# EAGLE library part IC_UC_ATMEGA32U4 (library dp_devices)
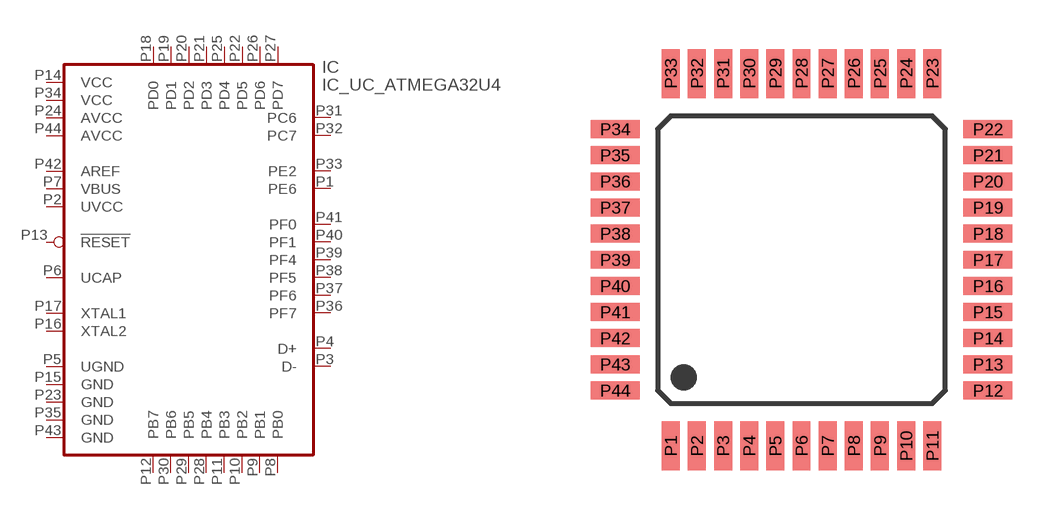
[diagram p96: symbol with the pads of TQFP-44; footprint TQFP-44]

Designator prefix IC

## IC_UC_ATMEGA32U4-TQFP44  [TQFP-44]
P1  PE6
P2  UVCC  pwr
P3  D-
P4  D+
P5  UGND  pwr
P6  UCAP  pwr
P7  VBUS  pwr
P8  PB0
P9  PB1
P10  PB2
P11  PB3
P12  PB7
P13  !RESET  in
P14  VCC  pwr
P15  GND  pwr
P16  XTAL2
P17  XTAL1
P18  PD0
P19  PD1
P20  PD2
P21  PD3
P22  PD5
P23  GND  pwr
P24  AVCC  pwr
P25  PD4
P26  PD6
P27  PD7
P28  PB4
P29  PB5
P30  PB6
P31  PC6
P32  PC7
P33  PE2
P34  VCC  pwr
P35  GND  pwr
P36  PF7
P37  PF6
P38  PF5
P39  PF4
P40  PF1
P41  PF0
P42  AREF  pwr
P43  GND  pwr
P44  AVCC  pwr

## Footprint TQFP-44 (pad centres in mm)
smd 0.55 x 1.5: P1 -4,-5.7; P2 -3.2,-5.7; P3 -2.4,-5.7; P4 -1.6,-5.7; P5 -0.8,-5.7; P6 0,-5.7; P7 0.8,-5.7; P8 1.6,-5.7; P9 2.4,-5.7; P10 3.2,-5.7; P11 4,-5.7; P23 4,5.7; P24 3.2,5.7; P25 2.4,5.7; P26 1.6,5.7; P27 0.8,5.7; P28 0,5.7; P29 -0.8,5.7; P30 -1.6,5.7; P31 -2.4,5.7; P32 -3.2,5.7; P33 -4,5.7
smd 1.5 x 0.55: P12 5.7,-4; P13 5.7,-3.2; P14 5.7,-2.4; P15 5.7,-1.6; P16 5.7,-0.8; P17 5.7,0; P18 5.7,0.8; P19 5.7,1.6; P20 5.7,2.4; P21 5.7,3.2; P22 5.7,4; P34 -5.7,4; P35 -5.7,3.2; P36 -5.7,2.4; P37 -5.7,1.6; P38 -5.7,0.8; P39 -5.7,0; P40 -5.7,-0.8; P41 -5.7,-1.6; P42 -5.7,-2.4; P43 -5.7,-3.2; P44 -5.7,-4